# Altium footprint library PcbLibrary.PcbLib: 8 footprints
Each footprint in its own frame and in the unit in brackets; x right, y up, seen from the top. Pads: shape width x height; smd on the part's side, far side on the other; paste and mask are expansions set on the pad; w line width, h text height; cw(c..) or ccw(c..) is an arc to the next point about the centre after c.
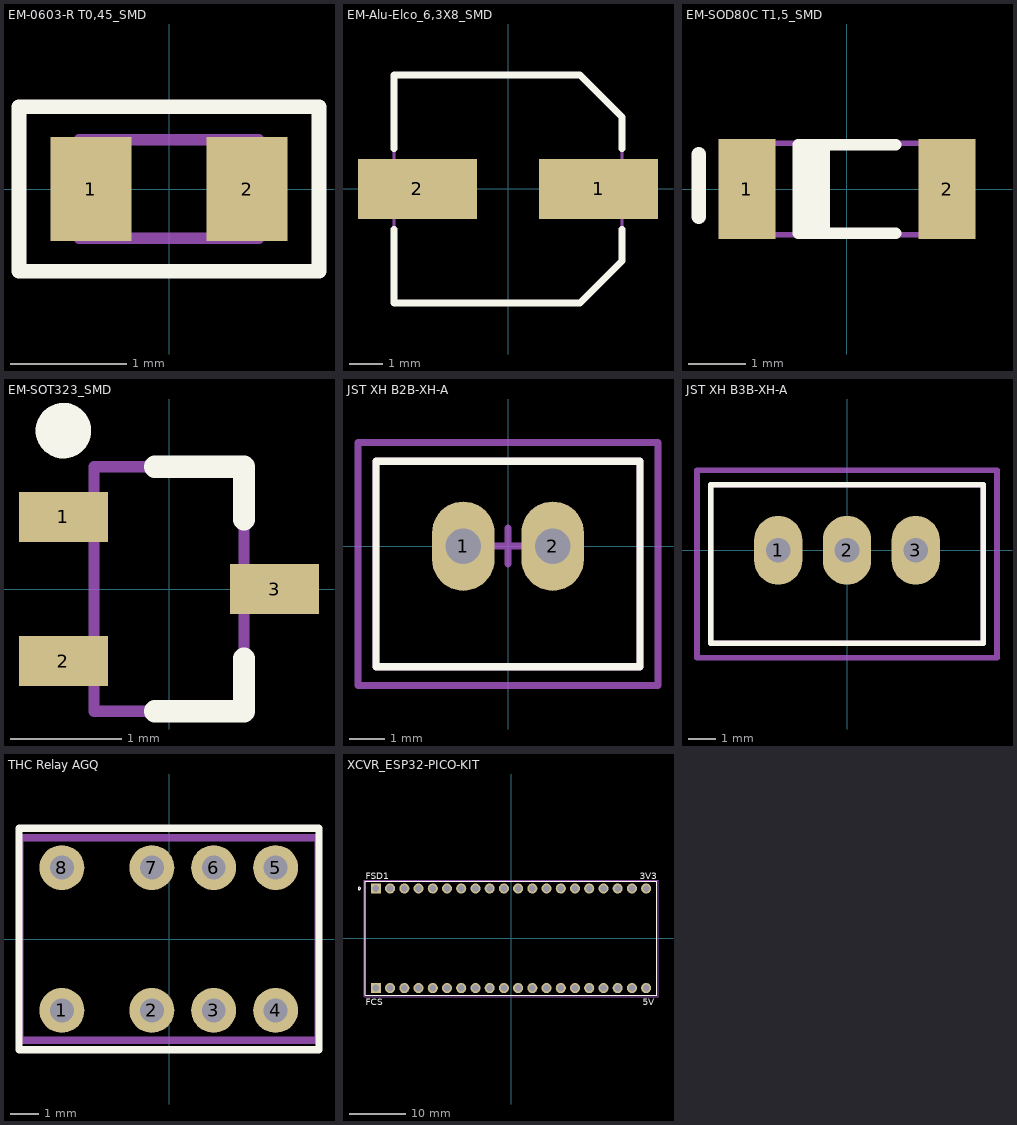
[diagram p0: the footprints below, top view; thin cyan lines are the x and y axes]

## EM-0603-R T0,45_SMD [mm] "Chip Resistor, 2-Leads, Body 1,55x0,85mm, IPC Medium Density"
height 0.45
pads (2):
  rect 0.7x0.9 smd: 1(-0.675,0) 2(0.675,0)
Top Overlay:
  lines w0.127: -1.295,-0.711 1.295,-0.711 1.295,0.711 -1.295,0.711 -1.295,-0.711
Mechanical 13:
  lines w0.1: -0.775,-0.425 -0.775,0.425 0.775,0.425 0.775,-0.425 -0.775,-0.425
3D body "EM-0603-R T0,45_SMD.step": height 0.45, standoff 0, extent -0.775,-0.425 0.775,0.425

## EM-Alu-Elco_6,3X8_SMD [mm] "Aluminum Electrolytic Capacitor, Body 6,60x6,60x7,70mm, IPC Low Density"
height 7.7
pads (2):
  rect 3.55x1.8 smd: 1(2.7,0) 2(-2.7,0)
Top Overlay:
  lines w0.2: -3.4,-1.2 -3.4,-3.4 2.15,-3.4 3.4,-2.15 3.4,-1.2 ; -3.4,1.2 -3.4,3.4 2.15,3.4 3.4,2.15 3.4,1.2
Mechanical 13:
  lines w0.1: -3.4,-3.4 2.15,-3.4 3.4,-2.15 3.4,2.15 2.15,3.4 -3.4,3.4 -3.4,-3.4
3D body "CAPAE7366X77M.step": height 7.7, standoff 0, extent -3.65,-3.4 3.65,3.4

## EM-SOD80C T1,5_SMD [mm] "MELF Diode, 2-Leads, Body 3,50x1,53mm, IPC Medium Density"
height 1.6
pads (2):
  rect 1x1.75 smd: 1(-1.75,0) 2(1.75,0)
Top Overlay:
  rectangle: -0.85,-0.775 -0.3,0.775
  lines w0.2: 0.85,-0.775 -0.85,-0.775 -0.85,0.775 0.85,0.775
  lines w0.254: -2.591,-0.483 -2.591,0.61
Mechanical 13:
  lines w0.1: -1.85,-0.8 1.85,-0.8 1.85,0.8 -1.85,0.8 -1.85,-0.8
3D body "EM-SOD80C T1,5_SMD.step": height 1.53, standoff 0, extent -1.75,-0.762 1.75,0.762

## EM-SOT323_SMD [mm] "SOTFL, 3-Leads, Body 2,00x2,10mm, Pitch 0,65mm, IPC Medium Density"
height 1.1
pads (3):
  rect 0.8x0.45 smd: 1(-0.95,0.65) 2(-0.95,-0.65) 3(0.95,0)
Top Overlay:
  circle w0.25: c-0.95,1.425 r0.125
  lines w0.2: -0.125,-1.1 0.675,-1.1 0.675,-0.625 ; -0.125,1.1 0.675,1.1 0.675,0.625
Mechanical 13:
  lines w0.1: -0.675,-1.1 0.675,-1.1 0.675,1.1 -0.675,1.1 -0.675,-1.1
3D body "EM-SOT323_SMD.step": height 1.1, standoff 0, extent -1.05,-1.098 1.05,1.098

## JST XH B2B-XH-A [mm]
height 7
pads (2):
  oval 1.75x2.5 hole 1: 1(-1.25,0) 2(1.25,0)
Top Overlay:
  lines w0.2: -3.7,-3.375 -3.7,2.375 3.7,2.375 3.7,-3.375 -3.7,-3.375
Mechanical 1:
  lines w0.2: -3.7,-3.375 3.7,-3.375 3.7,2.375 -3.7,2.375 -3.7,-3.375
Mechanical 15:
  lines w0.2: -0.5,0 0.5,0 ; 0,-0.5 0,0.5 ; -4.2,-3.9 -4.2,2.9 4.2,2.9 4.2,-3.9 -4.2,-3.9
3D body "JST B2B-XH-A.STEP": height 7, standoff -3.4, extent -3.7,-3.375 3.7,2.375

## JST XH B3B-XH-A [mm]
height 7
pads (3):
  oval 1.75x2.5 hole 0.9: 1(-2.5,0) 2(0,0) 3(2.5,0)
Top Overlay:
  lines w0.2: -4.95,-3.375 4.95,-3.375 4.95,2.375 -4.95,2.375 -4.95,-3.375
Mechanical 1:
  lines w0.2: -4.95,-3.375 -4.95,2.375 4.95,2.375 4.95,-3.375 -4.95,-3.375
Mechanical 15:
  lines w0.2: -0.5,0 0.5,0 ; 0,-0.5 0,0.5 ; -5.45,-3.9 5.45,-3.9 5.45,2.9 -5.45,2.9 -5.45,-3.9
3D body "JST B3B-XH-A.STEP": height 7, standoff -3.4, extent -4.95,-3.375 4.95,2.375

## THC Relay AGQ [mm] "AGQ Series - Trough Hole"
height 5.2
pads (8):
  round 1.6 hole 0.85 mask+0.102: 1(-3.81,-2.54) 2(-0.61,-2.54) 3(1.59,-2.54) 4(3.79,-2.54) 5(3.79,2.54) 6(1.59,2.54) 7(-0.61,2.54) 8(-3.81,2.54)
Top Overlay:
  lines w0.254: -5.334,-3.937 -5.334,3.937 5.334,3.937 5.334,-3.937 -5.334,-3.937
Mechanical 1:
  lines w0.254: -3.81,-2.54 -3.8,-2.54 ; -5.3,-3.6 -5.3,3.6 5.3,3.6 5.3,-3.6 -5.3,-3.6
3D body "IMxxT.STEP": height 5.4, standoff -3.45, extent -5,-3 5,3

## XCVR_ESP32-PICO-KIT [mm]
pads (40):
  rect 1.8x1.8 hole 1.2: J2_1(-24.13,8.89) J3_1(-24.13,-8.89)
  round 1.8 hole 1.2: J2_2(-21.59,8.89) J2_3(-19.05,8.89) J2_4(-16.51,8.89) J2_5(-13.97,8.89) J2_6(-11.43,8.89) J2_7(-8.89,8.89) J2_8(-6.35,8.89) J2_9(-3.81,8.89) J2_10(-1.27,8.89) J2_11(1.27,8.89) J2_12(3.81,8.89) J2_13(6.35,8.89) J2_14(8.89,8.89) J2_15(11.43,8.89) J2_16(13.97,8.89) J2_17(16.51,8.89) J2_18(19.05,8.89) J2_19(21.59,8.89) J2_20(24.13,8.89) J3_2(-21.59,-8.89) J3_3(-19.05,-8.89) J3_4(-16.51,-8.89) J3_5(-13.97,-8.89) J3_6(-11.43,-8.89) J3_7(-8.89,-8.89) J3_8(-6.35,-8.89) J3_9(-3.81,-8.89) J3_10(-1.27,-8.89) J3_11(1.27,-8.89) J3_12(3.81,-8.89) J3_13(6.35,-8.89) J3_14(8.89,-8.89) J3_15(11.43,-8.89) J3_16(13.97,-8.89) J3_17(16.51,-8.89) J3_18(19.05,-8.89) J3_19(21.59,-8.89) J3_20(24.13,-8.89)
Top Overlay:
  circle w0.2: c-27.1,8.9 r0.224
  lines w0.127: -26,-10.15 -26,10.15 26,10.15 26,-10.15 -26,-10.15
  text "5V" at 23.506,-11.944 h1.2
  text "3V3" at 23,10.506 h1.2
  text "FCS" at -25.94,-11.953 h1.2
  text "FSD1" at -25.922,10.506 h1.2
Mechanical 13:
  lines w0.127: -26,-10.15 -26,10.15 26,10.15 26,-10.15 -26,-10.15
Mechanical 15:
  lines w0.05: -26.25,-10.4 -26.25,10.4 26.25,10.4 26.25,-10.4 -26.25,-10.4
3D body "61302011821.stp": height 8.55, standoff -3.06, extent -25.65,-10.14 25.65,-7.64
3D body "61302011821.stp": height 8.55, standoff -3.06, extent -25.65,7.64 25.65,10.14